# Altium schematic symbol library IS31AP2005-SLS2-TR.SchLib: 1 symbol
Pins are listed as number, name and electrical type; pins without a type are passive.

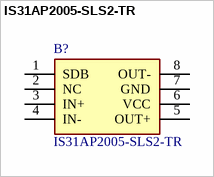
[diagram p0: symbol IS31AP2005-SLS2-TR]

## IS31AP2005-SLS2-TR
designator B?
2.95W Mono Filter-less Class-D Audio Power Amplifier, MSOP-8 (3.0mm x 5.0mm), T&R; Manufacturer_Name: Lumissil Microsystems; Geometry.Height: 1.1mm; Mouser Part Number: *; Mouser Price/Stock: *; Manufacturer_Part_Number: IS31AP2005-SLS2-TR; Datasheet Link: https://www.lumissil.com/assets/pdf/core/IS31AP2005_DS.pdf
footprint SOP65P490X110-8N
pins: 1 SDB, 2 NC, 3 IN+, 4 IN-, 5 OUT+, 6 VCC, 7 GND, 8 OUT-